# Altium schematic symbol library ISL28005.Schlib: 1 symbol
Pins are listed as number, name and electrical type; pins without a type are passive.

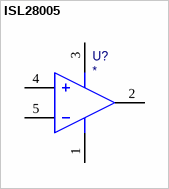
[diagram p0: symbol ISL28005]

## ISL28005
designator U?
pins: 1 OUT, 2 V-, 3 +IN, 4 -IN, 5 V+